# EAGLE library part 74AVC2T45 (library Misaka-IC)
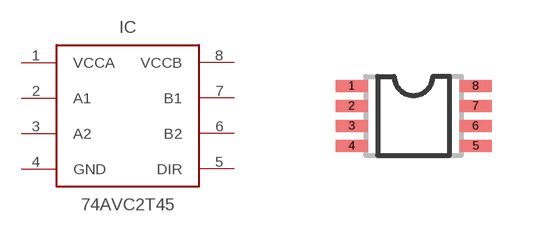
[diagram p22: symbol with the pads of S-PDSO-G8; footprint S-PDSO-G8]

Designator prefix IC

## 74AVC2T45DCU  [S-PDSO-G8]
1  VCCA  pwr
2  A1
3  A2
4  GND  pwr
5  DIR  in
6  B2
7  B1
8  VCCB  pwr

## Footprint S-PDSO-G8 (pad centres in mm)
smd 0.8 x 0.3: 1 -1.55,0.75; 2 -1.55,0.25; 3 -1.55,-0.25; 4 -1.55,-0.75; 5 1.55,-0.75; 6 1.55,-0.25; 7 1.55,0.25; 8 1.55,0.75